# EAGLE library part POWER_MATE_SAMTEC_2X4 (library hsk_2012)
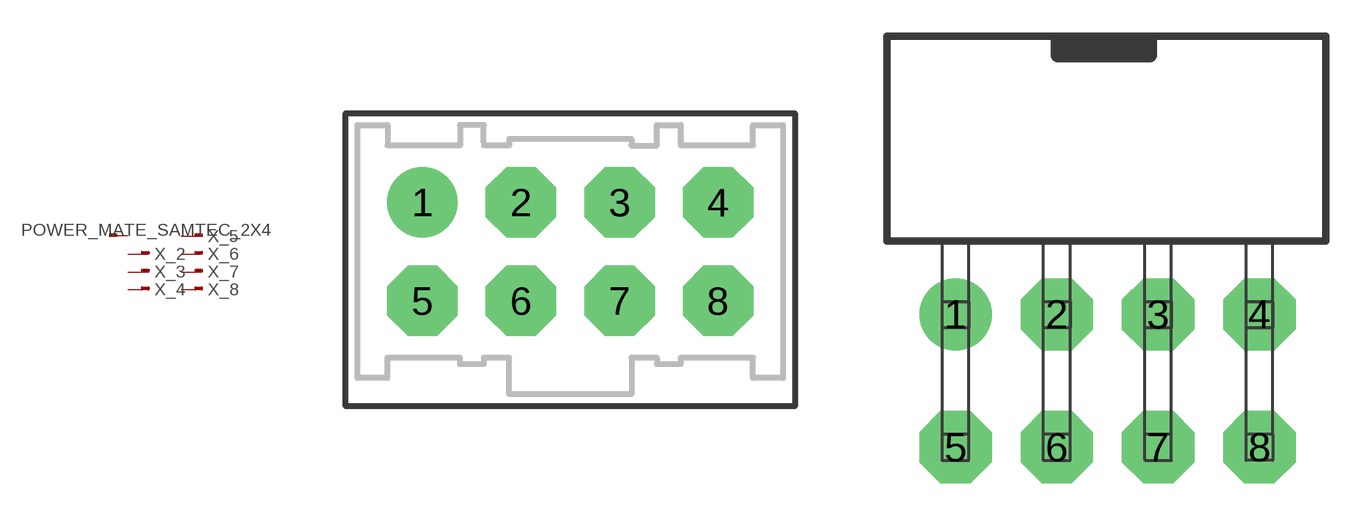
[diagram p31: symbol with the pads of POWER_MATE_SAMTEC_2X4; footprints POWER_MATE_SAMTEC_2X4, POWER_MATE_SAMTEC_2X4_90]

Designator prefix X; gates _1=SINGLE_PAD _2=CON _3=CON _4=CON _5=CON _6=CON _7=CON _8=CON

## POWER_MATE_SAMTEC_2X4_S  [POWER_MATE_SAMTEC_2X4]
1  _1:1
2  _2:CON
3  _3:CON
4  _4:CON
5  _5:CON
6  _6:CON
7  _7:CON
8  _8:CON

## POWER_MATE_SAMTEC_2X4_90  [POWER_MATE_SAMTEC_2X4_90]
Pads as for POWER_MATE_SAMTEC_2X4

## Footprint POWER_MATE_SAMTEC_2X4 (pad centres in mm)
drill 1.778 pad 3: 1 -6.287,2.095
drill 1.778 pad 3 octagon: 2 -2.095,2.095; 3 2.095,2.095; 4 6.287,2.095; 5 -6.287,-2.096; 6 -2.095,-2.096; 7 2.095,-2.096; 8 6.287,-2.096

## Footprint POWER_MATE_SAMTEC_2X4_90 (pad centres in mm)
drill 1.778 pad 3: 1 -6.3,2.755
drill 1.778 pad 3 octagon: 2 -2.1,2.755; 3 2.1,2.755; 4 6.3,2.755; 5 -6.3,-2.755; 6 -2.1,-2.755; 7 2.1,-2.755; 8 6.3,-2.755